# EAGLE library part BA662-J (library joakim)
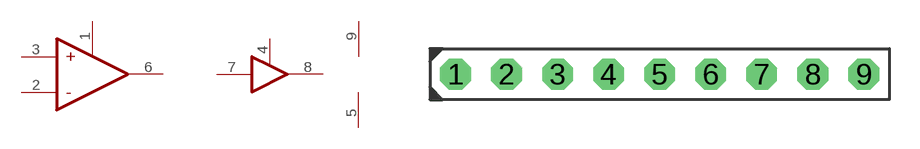
[diagram p24: symbol with the pads of SIP-9J; footprint SIP-9J]

Designator prefix -; gates G$1=BA662-BUFFER-J G$2=BA662-J G$3=PWR+-

## BA662-J  [SIP-9J]
1  G$2:C_OTA  in
2  G$2:-  in
3  G$2:+  in
4  G$1:C_BUFF
5  G$3:V-  pwr
6  G$2:OUT_OTA  in
7  G$1:IN_BUFF  in
8  G$1:OUT_BUFF  out
9  G$3:V+  pwr

## Footprint SIP-9J (pad centres in mm)
drill 1.016 octagon: 1 -10.16,0; 2 -7.62,0; 3 -5.08,0; 4 -2.54,0; 5 0,0; 6 2.54,0; 7 5.08,0; 8 7.62,0; 9 10.16,0